# EAGLE library part OP-AMP_TDA2822 (library Inventory)
COMPARATOR
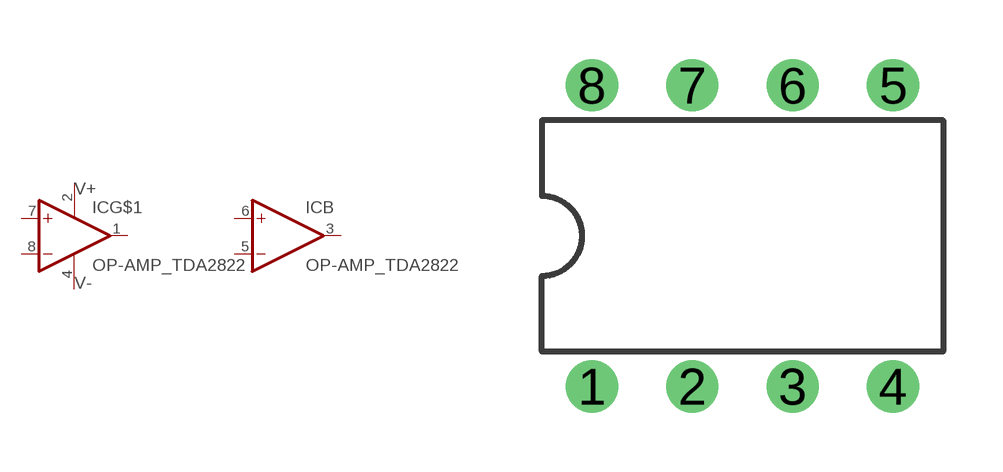
[diagram p2: symbol with the pads of IC_2*4(8-PIN); footprint IC_2*4(8-PIN)]

Designator prefix IC; gates B=OPAMP G$1=OPAMP_PWR

## OP-AMP_TDA2822N  [IC_2*4(8-PIN)]
1  G$1:OUT  out
2  G$1:V+  pwr
3  B:OUT  out
4  G$1:V-  pwr
5  B:-IN  in
6  B:+IN  in
7  G$1:+IN  in
8  G$1:-IN  in

## Footprint IC_2*4(8-PIN) (pad centres in mm)
Dual In Line Package
drill 0.813 pad 1.27: 1 -3.81,-3.81; 2 -1.27,-3.81; 3 1.27,-3.81; 4 3.81,-3.81; 5 3.81,3.81; 6 1.27,3.81; 7 -1.27,3.81; 8 -3.81,3.81